# Altium footprint library DRV8424PWPR.PcbLib: 3 footprints
Each footprint in its own frame and in the unit in brackets; x right, y up, seen from the top. Pads: shape width x height; smd on the part's side, far side on the other; paste and mask are expansions set on the pad; w line width, h text height; cw(c..) or ccw(c..) is an arc to the next point about the centre after c.
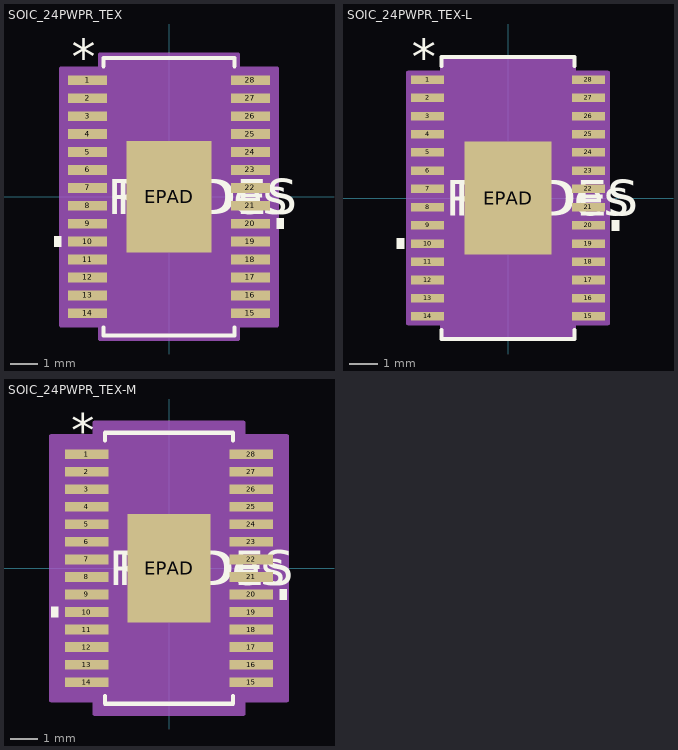
[diagram p0: the footprints below, top view; thin cyan lines are the x and y axes]

## SOIC_24PWPR_TEX [mil]
pads (29):
  rect 55.5x14 smd paste+0 mask+0: 1(-116.25,166.34) 2(-116.25,140.75) 3(-116.25,115.16) 4(-116.25,89.56) 5(-116.25,63.98) 6(-116.25,38.38) 7(-116.25,12.79) 8(-116.25,-12.79) 9(-116.25,-38.38) 10(-116.25,-63.98) 11(-116.25,-89.56) 12(-116.25,-115.16) 13(-116.25,-140.75) 14(-116.25,-166.34) 15(116.25,-166.34) 16(116.25,-140.75) 17(116.25,-115.16) 18(116.25,-89.56) 19(116.25,-63.98) 20(116.25,-38.38) 21(116.25,-12.79) 22(116.25,12.79) 23(116.25,38.38) 24(116.25,63.98) 25(116.25,89.56) 26(116.25,115.16) 27(116.25,140.75) 28(116.25,166.34)
  rect 122x159 smd paste-79 mask+0: EPAD(0,0)
Top Overlay:
  region: -154,-56.48 -164,-56.48 -164,-71.47 -154,-71.47
  region: 154,-30.89 164,-30.89 164,-45.88 154,-45.88
  lines w6: -93.5,-186.44 -93.5,-198 93.5,-198 93.5,-186.44 ; -93.5,186.44 -93.5,198 93.5,198 93.5,186.44
  text "*" at -138.75,175.34 h50
  text "RefDes" at -75,-25 h50
  text "REFDES" at -87.5,-25 h50
Top Paste:
  region: -3.94,75.56 -57.06,75.56 -57.06,30.44 -3.94,30.44
  region: -3.94,22.56 -57.06,22.56 -57.06,-22.56 -3.94,-22.56
  region: -3.94,-30.44 -57.06,-30.44 -57.06,-75.56 -3.94,-75.56
  region: 57.06,75.56 3.94,75.56 3.94,30.44 57.06,30.44
  region: 57.06,22.56 3.94,22.56 3.94,-22.56 57.06,-22.56
  region: 57.06,-30.44 3.94,-30.44 3.94,-75.56 57.06,-75.56
Mechanical 13:
  lines w0: -12,193 ccw(c0,193) 12,193
  lines w1: -130,-172.34 -130,-160.34 -88.5,-160.34 -88.5,-172.34 -130,-172.34 ; -130,-146.75 -130,-134.75 -88.5,-134.75 -88.5,-146.75 -130,-146.75 ; -130,-121.16 -130,-109.16 -88.5,-109.16 -88.5,-121.16 -130,-121.16 ; -130,-95.56 -130,-83.56 -88.5,-83.56 -88.5,-95.56 -130,-95.56 ; -130,-69.97 -130,-57.98 -88.5,-57.98 -88.5,-69.97 -130,-69.97 ; -130,-44.38 -130,-32.38 -88.5,-32.38 -88.5,-44.38 -130,-44.38 ; -130,-18.8 -130,-6.79 -88.5,-6.79 -88.5,-18.8 -130,-18.8 ; -130,6.79 -130,18.8 -88.5,18.8 -88.5,6.79 -130,6.79 ; -130,32.38 -130,44.38 -88.5,44.38 -88.5,32.38 -130,32.38 ; -130,57.98 -130,69.97 -88.5,69.97 -88.5,57.98 -130,57.98 ; -130,83.56 -130,95.56 -88.5,95.56 -88.5,83.56 -130,83.56 ; -130,109.16 -130,121.16 -88.5,121.16 -88.5,109.16 -130,109.16 ; -130,134.75 -130,146.75 -88.5,146.75 -88.5,134.75 -130,134.75 ; -130,160.34 -130,172.34 -88.5,172.34 -88.5,160.34 -130,160.34 ; -88.5,-193 88.5,-193 88.5,193 -88.5,193 -88.5,-193 ; 88.5,-172.34 88.5,-160.34 130,-160.34 130,-172.34 88.5,-172.34 ; 88.5,-146.75 88.5,-134.75 130,-134.75 130,-146.75 88.5,-146.75 ; 88.5,-121.16 88.5,-109.16 130,-109.16 130,-121.16 88.5,-121.16 ; 88.5,-95.56 88.5,-83.56 130,-83.56 130,-95.56 88.5,-95.56 ; 88.5,-69.97 88.5,-57.98 130,-57.98 130,-69.97 88.5,-69.97 ; 88.5,-44.38 88.5,-32.38 130,-32.38 130,-44.38 88.5,-44.38 ; 88.5,-18.8 88.5,-6.79 130,-6.79 130,-18.8 88.5,-18.8 ; 88.5,6.79 88.5,18.8 130,18.8 130,6.79 88.5,6.79 ; 88.5,32.38 88.5,44.38 130,44.38 130,32.38 88.5,32.38 ; 88.5,57.98 88.5,69.97 130,69.97 130,57.98 88.5,57.98 ; 88.5,83.56 88.5,95.56 130,95.56 130,83.56 88.5,83.56 ; 88.5,109.16 88.5,121.16 130,121.16 130,109.16 88.5,109.16 ; 88.5,134.75 88.5,146.75 130,146.75 130,134.75 88.5,134.75 ; 88.5,160.34 88.5,172.34 130,172.34 130,160.34 88.5,160.34
  text "*" at -86,140 h50
  text "RefDes2" at -87.5,-25 h50
Mechanical 15:
  region: -98.5,-183.34 -154,-183.34 -154,183.34 -98.5,183.34 -98.5,203 98.5,203 98.5,183.34 154,183.34 154,-183.34 98.5,-183.34 98.5,-203 -98.5,-203
  lines w6: -154,-183.34 -154,183.34 -98.5,183.34 -98.5,203 98.5,203 98.5,183.34 154,183.34 154,-183.34 98.5,-183.34 98.5,-203 -98.5,-203 -98.5,-183.34 -154,-183.34
3D body "SOIC_24PWPR_TEX.step": height 47.09, standoff -2.01, extent -130,-192.99 130,192.99

## SOIC_24PWPR_TEX-L [mil]
pads (29):
  rect 46x12 smd paste+0 mask+0: 1(-113,166.34) 2(-113,140.75) 3(-113,115.16) 4(-113,89.56) 5(-113,63.98) 6(-113,38.38) 7(-113,12.79) 8(-113,-12.79) 9(-113,-38.38) 10(-113,-63.98) 11(-113,-89.56) 12(-113,-115.16) 13(-113,-140.75) 14(-113,-166.34) 15(113,-166.34) 16(113,-140.75) 17(113,-115.16) 18(113,-89.56) 19(113,-63.98) 20(113,-38.38) 21(113,-12.79) 22(113,12.79) 23(113,38.38) 24(113,63.98) 25(113,89.56) 26(113,115.16) 27(113,140.75) 28(113,166.34)
  rect 122x159 smd paste-79 mask+0: EPAD(0,0)
Top Overlay:
  region: -146,-56.48 -156,-56.48 -156,-71.47 -146,-71.47
  region: 146,-30.89 156,-30.89 156,-45.88 146,-45.88
  lines w6: -93.5,-185.44 -93.5,-198 93.5,-198 93.5,-185.44 ; -93.5,185.44 -93.5,198 93.5,198 93.5,185.44
  text "*" at -135.5,173.34 h50
  text "RefDes" at -75,-25 h50
  text "REFDES" at -87.5,-25 h50
Top Paste:
  region: -3.94,75.56 -57.06,75.56 -57.06,30.44 -3.94,30.44
  region: -3.94,22.56 -57.06,22.56 -57.06,-22.56 -3.94,-22.56
  region: -3.94,-30.44 -57.06,-30.44 -57.06,-75.56 -3.94,-75.56
  region: 57.06,75.56 3.94,75.56 3.94,30.44 57.06,30.44
  region: 57.06,22.56 3.94,22.56 3.94,-22.56 57.06,-22.56
  region: 57.06,-30.44 3.94,-30.44 3.94,-75.56 57.06,-75.56
Mechanical 13:
  lines w0: -12,193 ccw(c0,193) 12,193
  lines w1: -130,-172.34 -130,-160.34 -88.5,-160.34 -88.5,-172.34 -130,-172.34 ; -130,-146.75 -130,-134.75 -88.5,-134.75 -88.5,-146.75 -130,-146.75 ; -130,-121.16 -130,-109.16 -88.5,-109.16 -88.5,-121.16 -130,-121.16 ; -130,-95.56 -130,-83.56 -88.5,-83.56 -88.5,-95.56 -130,-95.56 ; -130,-69.97 -130,-57.98 -88.5,-57.98 -88.5,-69.97 -130,-69.97 ; -130,-44.38 -130,-32.38 -88.5,-32.38 -88.5,-44.38 -130,-44.38 ; -130,-18.8 -130,-6.79 -88.5,-6.79 -88.5,-18.8 -130,-18.8 ; -130,6.79 -130,18.8 -88.5,18.8 -88.5,6.79 -130,6.79 ; -130,32.38 -130,44.38 -88.5,44.38 -88.5,32.38 -130,32.38 ; -130,57.98 -130,69.97 -88.5,69.97 -88.5,57.98 -130,57.98 ; -130,83.56 -130,95.56 -88.5,95.56 -88.5,83.56 -130,83.56 ; -130,109.16 -130,121.16 -88.5,121.16 -88.5,109.16 -130,109.16 ; -130,134.75 -130,146.75 -88.5,146.75 -88.5,134.75 -130,134.75 ; -130,160.34 -130,172.34 -88.5,172.34 -88.5,160.34 -130,160.34 ; -88.5,-193 88.5,-193 88.5,193 -88.5,193 -88.5,-193 ; 88.5,-172.34 88.5,-160.34 130,-160.34 130,-172.34 88.5,-172.34 ; 88.5,-146.75 88.5,-134.75 130,-134.75 130,-146.75 88.5,-146.75 ; 88.5,-121.16 88.5,-109.16 130,-109.16 130,-121.16 88.5,-121.16 ; 88.5,-95.56 88.5,-83.56 130,-83.56 130,-95.56 88.5,-95.56 ; 88.5,-69.97 88.5,-57.98 130,-57.98 130,-69.97 88.5,-69.97 ; 88.5,-44.38 88.5,-32.38 130,-32.38 130,-44.38 88.5,-44.38 ; 88.5,-18.8 88.5,-6.79 130,-6.79 130,-18.8 88.5,-18.8 ; 88.5,6.79 88.5,18.8 130,18.8 130,6.79 88.5,6.79 ; 88.5,32.38 88.5,44.38 130,44.38 130,32.38 88.5,32.38 ; 88.5,57.98 88.5,69.97 130,69.97 130,57.98 88.5,57.98 ; 88.5,83.56 88.5,95.56 130,95.56 130,83.56 88.5,83.56 ; 88.5,109.16 88.5,121.16 130,121.16 130,109.16 88.5,109.16 ; 88.5,134.75 88.5,146.75 130,146.75 130,134.75 88.5,134.75 ; 88.5,160.34 88.5,172.34 130,172.34 130,160.34 88.5,160.34
  text "*" at -86,140 h50
  text "RefDes2" at -87.5,-25 h50
Mechanical 15:
  region: -92.5,-176.34 -140,-176.34 -140,176.34 -92.5,176.34 -92.5,197 92.5,197 92.5,176.34 140,176.34 140,-176.34 92.5,-176.34 92.5,-197 -92.5,-197
  lines w6: -140,-176.34 -140,176.34 -92.5,176.34 -92.5,197 92.5,197 92.5,176.34 140,176.34 140,-176.34 92.5,-176.34 92.5,-197 -92.5,-197 -92.5,-176.34 -140,-176.34
3D body "SOIC_24PWPR_TEX.step": height 47.09, standoff -2.01, extent -130,-192.99 130,192.99

## SOIC_24PWPR_TEX-M [mil]
pads (29):
  rect 63.5x14 smd paste+0 mask+0: 1(-120.25,166.34) 2(-120.25,140.75) 3(-120.25,115.16) 4(-120.25,89.56) 5(-120.25,63.98) 6(-120.25,38.38) 7(-120.25,12.79) 8(-120.25,-12.79) 9(-120.25,-38.38) 10(-120.25,-63.98) 11(-120.25,-89.56) 12(-120.25,-115.16) 13(-120.25,-140.75) 14(-120.25,-166.34) 15(120.25,-166.34) 16(120.25,-140.75) 17(120.25,-115.16) 18(120.25,-89.56) 19(120.25,-63.98) 20(120.25,-38.38) 21(120.25,-12.79) 22(120.25,12.79) 23(120.25,38.38) 24(120.25,63.98) 25(120.25,89.56) 26(120.25,115.16) 27(120.25,140.75) 28(120.25,166.34)
  rect 122x159 smd paste-79 mask+0: EPAD(0,0)
Top Overlay:
  region: -162,-56.48 -172,-56.48 -172,-71.47 -162,-71.47
  region: 162,-30.89 172,-30.89 172,-45.88 162,-45.88
  lines w6: -93.5,-186.44 -93.5,-198 93.5,-198 93.5,-186.44 ; -93.5,186.44 -93.5,198 93.5,198 93.5,186.44
  text "*" at -142.75,175.34 h50
  text "RefDes" at -75,-25 h50
  text "REFDES" at -87.5,-25 h50
Top Paste:
  region: -3.94,75.56 -57.06,75.56 -57.06,30.44 -3.94,30.44
  region: -3.94,22.56 -57.06,22.56 -57.06,-22.56 -3.94,-22.56
  region: -3.94,-30.44 -57.06,-30.44 -57.06,-75.56 -3.94,-75.56
  region: 57.06,75.56 3.94,75.56 3.94,30.44 57.06,30.44
  region: 57.06,22.56 3.94,22.56 3.94,-22.56 57.06,-22.56
  region: 57.06,-30.44 3.94,-30.44 3.94,-75.56 57.06,-75.56
Mechanical 13:
  lines w0: -12,193 ccw(c0,193) 12,193
  lines w1: -130,-172.34 -130,-160.34 -88.5,-160.34 -88.5,-172.34 -130,-172.34 ; -130,-146.75 -130,-134.75 -88.5,-134.75 -88.5,-146.75 -130,-146.75 ; -130,-121.16 -130,-109.16 -88.5,-109.16 -88.5,-121.16 -130,-121.16 ; -130,-95.56 -130,-83.56 -88.5,-83.56 -88.5,-95.56 -130,-95.56 ; -130,-69.97 -130,-57.98 -88.5,-57.98 -88.5,-69.97 -130,-69.97 ; -130,-44.38 -130,-32.38 -88.5,-32.38 -88.5,-44.38 -130,-44.38 ; -130,-18.8 -130,-6.79 -88.5,-6.79 -88.5,-18.8 -130,-18.8 ; -130,6.79 -130,18.8 -88.5,18.8 -88.5,6.79 -130,6.79 ; -130,32.38 -130,44.38 -88.5,44.38 -88.5,32.38 -130,32.38 ; -130,57.98 -130,69.97 -88.5,69.97 -88.5,57.98 -130,57.98 ; -130,83.56 -130,95.56 -88.5,95.56 -88.5,83.56 -130,83.56 ; -130,109.16 -130,121.16 -88.5,121.16 -88.5,109.16 -130,109.16 ; -130,134.75 -130,146.75 -88.5,146.75 -88.5,134.75 -130,134.75 ; -130,160.34 -130,172.34 -88.5,172.34 -88.5,160.34 -130,160.34 ; -88.5,-193 88.5,-193 88.5,193 -88.5,193 -88.5,-193 ; 88.5,-172.34 88.5,-160.34 130,-160.34 130,-172.34 88.5,-172.34 ; 88.5,-146.75 88.5,-134.75 130,-134.75 130,-146.75 88.5,-146.75 ; 88.5,-121.16 88.5,-109.16 130,-109.16 130,-121.16 88.5,-121.16 ; 88.5,-95.56 88.5,-83.56 130,-83.56 130,-95.56 88.5,-95.56 ; 88.5,-69.97 88.5,-57.98 130,-57.98 130,-69.97 88.5,-69.97 ; 88.5,-44.38 88.5,-32.38 130,-32.38 130,-44.38 88.5,-44.38 ; 88.5,-18.8 88.5,-6.79 130,-6.79 130,-18.8 88.5,-18.8 ; 88.5,6.79 88.5,18.8 130,18.8 130,6.79 88.5,6.79 ; 88.5,32.38 88.5,44.38 130,44.38 130,32.38 88.5,32.38 ; 88.5,57.98 88.5,69.97 130,69.97 130,57.98 88.5,57.98 ; 88.5,83.56 88.5,95.56 130,95.56 130,83.56 88.5,83.56 ; 88.5,109.16 88.5,121.16 130,121.16 130,109.16 88.5,109.16 ; 88.5,134.75 88.5,146.75 130,146.75 130,134.75 88.5,134.75 ; 88.5,160.34 88.5,172.34 130,172.34 130,160.34 88.5,160.34
  text "*" at -86,140 h50
  text "RefDes2" at -87.5,-25 h50
Mechanical 15:
  region: -108.5,-193.34 -172,-193.34 -172,193.34 -108.5,193.34 -108.5,213 108.5,213 108.5,193.34 172,193.34 172,-193.34 108.5,-193.34 108.5,-213 -108.5,-213
  lines w6: -172,-193.34 -172,193.34 -108.5,193.34 -108.5,213 108.5,213 108.5,193.34 172,193.34 172,-193.34 108.5,-193.34 108.5,-213 -108.5,-213 -108.5,-193.34 -172,-193.34
3D body "SOIC_24PWPR_TEX.step": height 47.09, standoff -2.01, extent -130,-192.99 130,192.99